# EAGLE library part 71922-106LF (library FCI_By_element14_Batch_1)
LATCH HEADER, RIGHT ANGLE
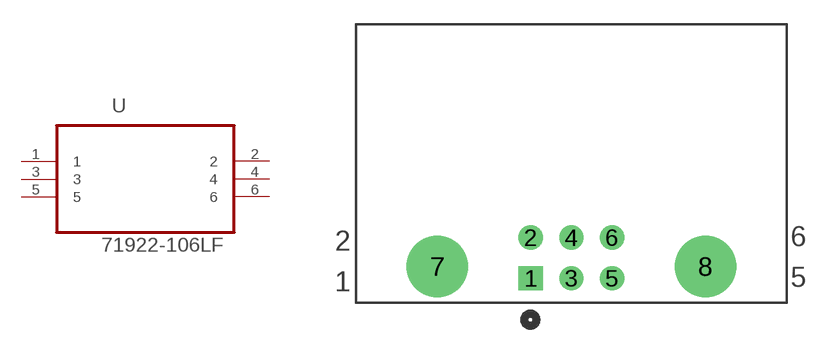
[diagram p34: symbol with the pads of FCI_71922-106LF; footprint FCI_71922-106LF]

Designator prefix U

## 71922-106LF (MPN: 71922-106LF; OC_FARNELL: -; OC_NEWARK: 62K7437; PACKAGE: CON-6 WAYS; SUPPLIER: FCI)  [FCI_71922-106LF]
1  1  pas
2  2  pas
3  3  pas
4  4  pas
5  5  pas
6  6  pas

## Footprint FCI_71922-106LF (pad centres in mm)
drill 1.016 square: 1 -5.08,-2.54
drill 1.016: 2 -5.08,0; 3 -2.54,-2.54; 4 -2.54,0; 5 0,-2.54; 6 0,0
drill 2.845: 7 -10.922,-1.803; 8 5.842,-1.803